# Altium schematic symbol library ADG708.SchLib: 1 symbol
Pins are listed as number, name and electrical type; pins without a type are passive.

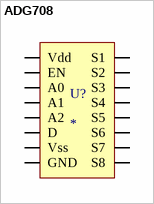
[diagram p0: symbol ADG708]

## ADG708
designator U?
pins: 1 A0, 2 EN, 3 Vss, 4 S1, 5 S2, 6 S3, 7 S4, 8 D, 9 S8, 10 S7, 11 S6, 12 S5, 13 Vdd, 14 GND, 15 A2, 16 A1